# Altium schematic symbol library Potenciometro5K.SchLib: 4 symbols
Pins are listed as number, name and electrical type; pins without a type are passive.

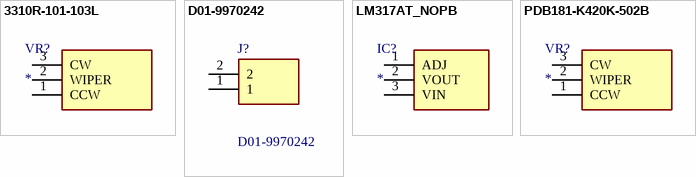
[diagram p0: symbols 3310R-101-103L to PDB181-K420K-502B]

## 3310R-101-103L
designator VR?
Variable Resistor; Manufacturer_Name: Bourns; Manufacturer_Part_Number: 3310R-101-103L; Datasheet Link: https://www.mouser.com/datasheet/2/54/3310-776730.pdf; Height: 17mm; Mouser Part Number: 652-3310R-101-103L; Mouser Price/Stock: https://www.mouser.co.uk/ProductDetail/Bourns/3310R-101-103L?qs=eLugBjTgzvN7VrCch33oXQ%3D%3D
footprint 3310R125103L
pins: 1 CCW, 2 WIPER, 3 CW

## D01-9970242
designator J?
IC Socket: 2 Pos Receptacle SIL Straight THT Strip; Manufacturer_Name: Harwin; Geometry.Height: 4.2mm; Mouser Part Number: 855-D01-9970242; Mouser Price/Stock: https://www.mouser.co.uk/ProductDetail/Harwin/D01-9970242?qs=TpUtqFO9vU%252Bf37OJ5TYoTQ%3D%3D; Manufacturer_Part_Number: D01-9970242; Datasheet Link: https://content.harwin.com/m/e0b6c35948424a73/original/DRG-00097-Technical-Drawing-Datasheet-D01-997-pdf.pdf
footprint D019970242
pins: 1, 2

## LM317AT_NOPB
designator IC?
Integrated Circuit; Manufacturer_Name: Texas Instruments; Manufacturer_Part_Number: LM317AT/NOPB; Datasheet Link: http://www.ti.com/lit/gpn/lm317a; Height: 4.7mm; Mouser Part Number: 926-LM317AT/NOPB; Mouser Price/Stock: https://www.mouser.co.uk/ProductDetail/Texas-Instruments/LM317AT-NOPB?qs=X1J7HmVL2ZFYFJRcNgsWcQ%3D%3D; Arrow Part Number: LM317AT/NOPB; Arrow Price/Stock: https://www.arrow.com/en/products/lm317atnopb/texas-instruments?utm_currency=USD&region=europe
footprint TO254P470X1028X1955-3P
pins: 1 ADJ, 2 VOUT, 3 VIN

## PDB181-K420K-502B
designator VR?
Variable Resistor; Manufacturer_Name: Bourns; Manufacturer_Part_Number: PDB181-K420K-502B; Datasheet Link: https://www.bourns.com/docs/product-datasheets/PDB18.pdf; Height: 16.5mm; Mouser Part Number: 652-PDB181-K420K502B; Mouser Price/Stock: https://www.mouser.co.uk/ProductDetail/Bourns/PDB181-K420K-502B?qs=Ivs1Be2ZGq6EMYRq4LQhiA%3D%3D; Arrow Part Number: PDB181-K420K-502B; Arrow Price/Stock: https://www.arrow.com/en/products/pdb181-k420k-502b/bourns?region=nac
footprint PDB181K220K104B
pins: 1 CCW, 2 WIPER, 3 CW